# Altium footprint library Microdrive_Drive.PcbLib: 16 footprints
Each footprint in its own frame and in the unit in brackets; x right, y up, seen from the top. Pads: shape width x height; smd on the part's side, far side on the other; paste and mask are expansions set on the pad; w line width, h text height; cw(c..) or ccw(c..) is an arc to the next point about the centre after c.
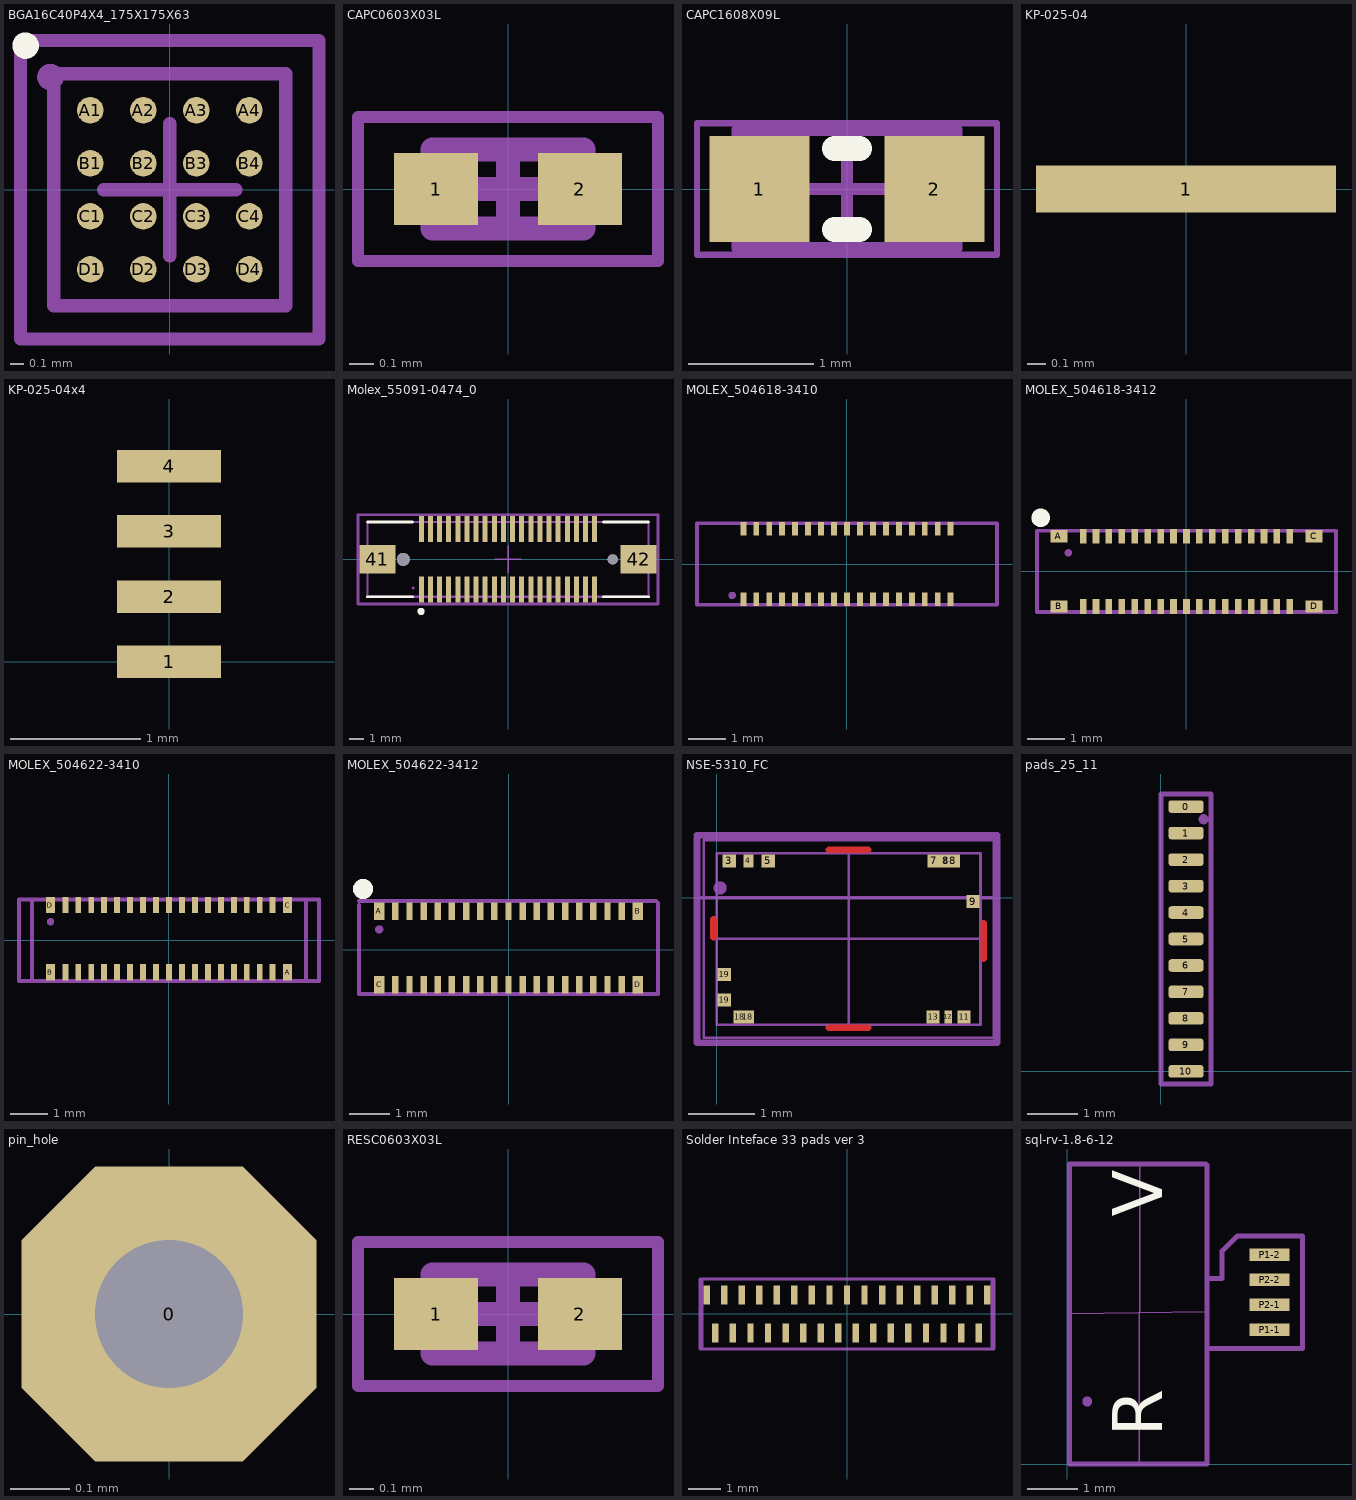
[diagram p0: the footprints below, top view; thin cyan lines are the x and y axes]

## BGA16C40P4X4_175X175X63 [mm]
pads (16):
  round 0.2 smd: A1(-0.6,0.6) A2(-0.2,0.6) A3(0.2,0.6) A4(0.6,0.6) B1(-0.6,0.2) B2(-0.2,0.2) B3(0.2,0.2) B4(0.6,0.2) C1(-0.6,-0.2) C2(-0.2,-0.2) C3(0.2,-0.2) C4(0.6,-0.2) D1(-0.6,-0.6) D2(-0.2,-0.6) D3(0.2,-0.6) D4(0.6,-0.6)
Top Overlay:
  circle w0.1: c-1.087,1.087 r0.05
Mechanical 1:
  lines w0.1: -0.875,-0.875 -0.875,0.875 0.875,0.875 0.875,-0.875 -0.875,-0.875
Mechanical 15:
  lines w0.1: -0.5,0 0.5,0 ; 0,-0.5 0,0.5 ; -1.125,-1.125 1.125,-1.125 1.125,1.125 -1.125,1.125 -1.125,-1.125
Mechanical 22:
  circle w0.1: c-0.9,0.85 r0.05
  lines w0.1: -1.125,-1.125 1.125,-1.125 1.125,1.125 -1.125,1.125 -1.125,-1.125
  text ".Designator" at -1,-0.05 h0.15
3D body: height 0.25, standoff 0, extent -0.875,-0.875 0.875,0.875

## CAPC0603X03L [mm]
pads (2):
  rect 0.35x0.3 smd: 1(-0.3,0) 2(0.3,0)
Mechanical 1:
  lines w0.1: -0.315,-0.165 0.315,-0.165 0.315,0.165 -0.315,0.165 -0.315,-0.165
Mechanical 15:
  lines w0.1: -0.165,0 0.165,0 ; 0,-0.165 0,0.165
Mechanical 22:
  lines w0.05: -0.625,-0.3 0.625,-0.3 0.625,0.3 -0.625,0.3 -0.625,-0.3
  text ".Designator" at -0.5,-0.2 h0.15
3D body: height 0.25, standoff 0, extent -0.675,-0.35 0.675,0.35
3D body: height 0.25, standoff 0, extent -0.314,-0.164 0.314,0.164
3D body: height 0.25, standoff 0, extent -0.365,-0.215 0.365,0.215
3D body: height 0.25, standoff 0, extent -0.166,-0.166 0.166,0.166
3D body: height 0.25, standoff 0, extent -0.624,-0.299 0.624,0.299
3D body: height 0.25, standoff 0, extent -0.675,-0.35 0.675,0.35
3D body: height 0.25, standoff 0, extent -0.577,-0.252 0.577,0.252
3D body: height 0.33, standoff 0, extent -0.315,-0.165 0.315,0.165

## CAPC1608X09L [mm]
pads (2):
  rect 0.8x0.85 smd: 1(-0.7,0) 2(0.7,0)
Top Overlay:
  lines w0.2: -0.1,-0.325 0.1,-0.325 ; -0.1,0.325 0.1,0.325
Mechanical 1:
  lines w0.1: -0.875,-0.475 0.875,-0.475 0.875,0.475 -0.875,0.475 -0.875,-0.475
Mechanical 15:
  lines w0.1: -0.475,0 0.475,0 ; 0,-0.475 0,0.475
Mechanical 22:
  lines w0.05: -1.2,-0.525 1.2,-0.525 1.2,0.525 -1.2,0.525 -1.2,-0.525
  text ".Designator" at -0.8,-0.05 h0.15
3D body: height 0.25, standoff 0, extent -0.2,-0.425 0.2,0.425
3D body: height 0.25, standoff 0, extent -0.874,-0.474 0.874,0.474
3D body: height 0.25, standoff 0, extent -0.925,-0.525 0.925,0.525
3D body: height 0.25, standoff 0, extent -0.476,-0.476 0.476,0.476
3D body: height 0.25, standoff 0, extent -1.199,-0.524 1.199,0.524
3D body: height 0.25, standoff 0, extent -1.25,-0.575 1.25,0.575
3D body: height 0.25, standoff 0, extent -1.202,-0.527 1.202,0.527
3D body: height 0.95, standoff 0, extent -0.875,-0.475 0.875,0.475

## KP-025-04 [mm]
pads (1):
  rect 1.6x0.25 smd: 1(0,0)
3D body: height 0.03, standoff 0, extent -0.902,-0.227 0.902,0.227

## KP-025-04x4 [mm]
pads (4):
  rect 0.8x0.25 smd: 1(0,0) 2(0,0.5) 3(0,1) 4(0,1.5)
3D body: height 0.03, standoff 0, extent -0.5,-0.227 0.5,0.227
3D body: height 0.03, standoff 0, extent -0.5,0.273 0.5,0.727
3D body: height 0.03, standoff 0, extent -0.5,0.773 0.5,1.227
3D body: height 0.03, standoff 0, extent -0.5,1.273 0.5,1.727

## Molex_55091-0474_0 [mm]
pads (44):
  rect 0.35x1.8 smd paste+0 mask+0: 1(-6.032,-2.1) 2(-6.032,2.1) 3(-5.397,-2.1) 4(-5.397,2.1) 5(-4.763,-2.1) 6(-4.763,2.1) 7(-4.127,-2.1) 8(-4.127,2.1) 9(-3.492,-2.1) 10(-3.492,2.1) 11(-2.857,-2.1) 12(-2.857,2.1) 13(-2.222,-2.1) 14(-2.222,2.1) 15(-1.587,-2.1) 16(-1.587,2.1) 17(-0.953,-2.1) 18(-0.953,2.1) 19(-0.318,-2.1) 20(-0.318,2.1) 21(0.318,-2.1) 22(0.318,2.1) 23(0.953,-2.1) 24(0.953,2.1) 25(1.587,-2.1) 26(1.587,2.1) 27(2.222,-2.1) 28(2.222,2.1) 29(2.857,-2.1) 30(2.857,2.1) 31(3.492,-2.1) 32(3.492,2.1) 33(4.127,-2.1) 34(4.127,2.1) 35(4.763,-2.1) 36(4.763,2.1) 37(5.397,-2.1) 38(5.397,2.1) 39(6.032,-2.1) 40(6.032,2.1)
  rect 2.5x2 smd paste+0 mask+0: 41(-9.085,0) 42(9.085,0)
  round 0.9 hole 0.9 unplated paste-1000 mask+0: ""(-7.285,0)
  round 0.7 hole 0.7 unplated paste-1000 mask+0: ""(7.285,0)
Top Overlay:
  circle w0.25: c-6.05,-3.625 r0.125
  lines w0.2: -9.785,-2.6 -6.65,-2.6 ; -9.785,2.6 -6.65,2.6 ; 6.65,-2.6 9.785,-2.6 ; 6.65,2.6 9.785,2.6
Mechanical 10:
  lines w0.2: -10.435,-3.1 -10.435,3.1 10.435,3.1 10.435,-3.1 -10.435,-3.1
  text ".Designator" at 0,0 h1
Mechanical 12:
  lines w0.15: -9.785,-2.6 -9.785,2.6 9.785,2.6 9.785,-2.6 -9.785,-2.6
Mechanical 15:
  lines w0.1: -0.93,0 0.93,0 ; 0,-0.93 0,0.93
Mechanical 22:
  circle w0.1: c-6.6,-2 r0.05
  lines w0.2: -10.435,-3.1 10.435,-3.1 10.435,3.1 -10.435,3.1 -10.435,-3.1
  text ".Designator" at -0.2,-0.1 h0.15
3D body "3dmodel.step": height 5.24, standoff -0.61, extent -9.785,-2.587 9.785,2.613

## MOLEX_504618-3410 [mm]
pads (34):
  rect 0.16x0.36 smd paste+0 mask+0: 1(-2.8,-0.95) 2(-2.8,0.95) 3(-2.45,-0.95) 4(-2.45,0.95) 5(-2.1,-0.95) 6(-2.1,0.95) 7(-1.75,-0.95) 8(-1.75,0.95) 9(-1.4,-0.95) 10(-1.4,0.95) 11(-1.05,-0.95) 12(-1.05,0.95) 13(-0.7,-0.95) 14(-0.7,0.95) 15(-0.35,-0.95) 16(-0.35,0.95) 17(0,-0.95) 18(0,0.95) 19(0.35,-0.95) 20(0.35,0.95) 21(0.7,-0.95) 22(0.7,0.95) 23(1.05,-0.95) 24(1.05,0.95) 25(1.4,-0.95) 26(1.4,0.95) 27(1.75,-0.95) 28(1.75,0.95) 29(2.1,-0.95) 30(2.1,0.95) 31(2.45,-0.95) 32(2.45,0.95) 33(2.8,-0.95) 34(2.8,0.95)
Mechanical 15:
  lines w0.1: -4.05,-1.1 -4.05,1.1 4.05,1.1 4.05,-1.1 -4.05,-1.1
Mechanical 22:
  circle w0.1: c-3.1,-0.85 r0.05
  lines w0.1: -4.05,-1.1 -4.05,1.1 ; -4.05,-1.1 4.05,-1.1 ; -4.05,-1.1 4.05,-1.1 ; -4.05,-1.1 -4.05,1.1 ; -4.05,1.1 4.05,1.1 ; -4.05,1.1 4.05,1.1 ; 4.05,-1.1 4.05,1.1 ; 4.05,-1.1 4.05,1.1
  text ".Designator" at -0.65,-0.1 h0.15
3D body "5046183410.stp": height 0.58, standoff -0.02, extent -4.05,-1 4.05,1

## MOLEX_504618-3412 [mm]
pads (38):
  rect 0.455x0.33 smd paste-1000 mask+0.035: A(-3.455,0.95) B(-3.455,-0.95) C(3.455,0.95) D(3.455,-0.95)
  rect 0.18x0.4 smd paste+0 mask+0.035: B1(-2.8,-0.95) B2(-2.45,-0.95) B3(-2.1,-0.95) B4(-1.75,-0.95) B5(-1.4,-0.95) B6(-1.05,-0.95) B7(-0.7,-0.95) B8(-0.35,-0.95) B9(0,-0.95) B10(0.35,-0.95) B11(0.7,-0.95) B12(1.05,-0.95) B13(1.4,-0.95) B14(1.75,-0.95) B15(2.1,-0.95) B16(2.45,-0.95) B17(2.8,-0.95) T1(-2.8,0.95) T2(-2.45,0.95) T3(-2.1,0.95) T4(-1.75,0.95) T5(-1.4,0.95) T6(-1.05,0.95) T7(-0.7,0.95) T8(-0.35,0.95) T9(0,0.95) T10(0.35,0.95) T11(0.7,0.95) T12(1.05,0.95) T13(1.4,0.95) T14(1.75,0.95) T15(2.1,0.95) T16(2.45,0.95) T17(2.8,0.95)
Top Overlay:
  circle w0.25: c-3.95,1.45 r0.125
Mechanical 15:
  lines w0.1: -4.05,-1.1 4.05,-1.1 4.05,1.1 -4.05,1.1 -4.05,-1.1
Mechanical 22:
  circle w0.1: c-3.2,0.5 r0.05
  lines w0.1: -4.05,-1.1 -4.05,1.1 4.05,1.1 4.05,-1.1 -4.05,-1.1
  text ".Designator" at -0.2,-0.05 h0.15
3D body "5046183410.stp": height 0.58, standoff -0.02, extent -4.05,-1 4.05,1

## MOLEX_504622-3410 [mm]
pads (38):
  rect 0.16x0.435 smd paste+0 mask+0.035: 1(2.8,-0.865) 2(2.8,0.95) 3(2.45,-0.865) 4(2.45,0.95) 5(2.1,-0.865) 6(2.1,0.95) 7(1.75,-0.865) 8(1.75,0.95) 9(1.4,-0.865) 10(1.4,0.95) 11(1.05,-0.865) 12(1.05,0.95) 13(0.7,-0.865) 14(0.7,0.95) 15(0.35,-0.865) 16(0.35,0.95) 17(0,-0.865) 18(0,0.95) 19(-0.35,-0.865) 20(-0.35,0.95) 21(-0.7,-0.865) 22(-0.7,0.95) 23(-1.05,-0.865) 24(-1.05,0.95) 25(-1.4,-0.865) 26(-1.4,0.95) 27(-1.75,-0.865) 28(-1.75,0.95) 29(-2.1,-0.865) 30(-2.1,0.95) 31(-2.45,-0.865) 32(-2.45,0.95) 33(-2.8,-0.865) 34(-2.8,0.95)
  rect 0.25x0.435 smd paste+0 mask+0.035: A(3.2,-0.865) B(-3.2,-0.865) C(3.2,0.95) D(-3.2,0.95)
Mechanical 15:
  lines w0.1: -3.7,-1.1 3.7,-1.1 3.7,1.05 3.65,1.1 -3.7,1.1 -3.7,-1.1
Mechanical 22:
  circle w0.1: c-3.2,0.5 r0.05
  lines w0.1: -4.05,-1.1 -4.05,1.1 4.05,1.1 4.05,-1.1 -4.05,-1.1
  text ".Designator" at -0.2,-0.05 h0.15
3D body "5046223410.stp": height 0.46, standoff -0.02, extent -3.62,-1 3.62,1

## MOLEX_504622-3412 [mm]
pads (38):
  rect 0.25x0.435 smd paste+0 mask+0.035: A(-3.2,0.95) B(3.2,0.95) C(-3.2,-0.865) D(3.2,-0.865)
  rect 0.16x0.435 smd paste+0 mask+0.035: B1(-2.8,-0.865) B2(-2.45,-0.865) B3(-2.1,-0.865) B4(-1.75,-0.865) B5(-1.4,-0.865) B6(-1.05,-0.865) B7(-0.7,-0.865) B8(-0.35,-0.865) B9(0,-0.865) B10(0.35,-0.865) B11(0.7,-0.865) B12(1.05,-0.865) B13(1.4,-0.865) B14(1.75,-0.865) B15(2.1,-0.865) B16(2.45,-0.865) B17(2.8,-0.865) T1(-2.8,0.95) T2(-2.45,0.95) T3(-2.1,0.95) T4(-1.75,0.95) T5(-1.4,0.95) T6(-1.05,0.95) T7(-0.7,0.95) T8(-0.35,0.95) T9(0,0.95) T10(0.35,0.95) T11(0.7,0.95) T12(1.05,0.95) T13(1.4,0.95) T14(1.75,0.95) T15(2.1,0.95) T16(2.45,0.95) T17(2.8,0.95)
Top Overlay:
  circle w0.25: c-3.6,1.5 r0.125
Mechanical 22:
  circle w0.1: c-3.2,0.5 r0.05
  lines w0.1: -3.7,1.1 -3.7,-1.1 3.7,-1.1 3.7,1.15 ; -3.7,1.2 3.65,1.2
  text ".Designator" at -0.2,-0.05 h0.15
3D body "5046223410.stp": height 0.46, standoff -0.02, extent -3.62,-1 3.62,1

## NSE-5310_FC [mm]
pads (16):
  rect 0.2x0.2 smd: 3(0.19,0.56) 5(0.781,0.56) 7(3.295,0.56) 8(3.484,0.56) 8(3.587,0.56) 9(3.888,-0.057) 11(3.75,-1.807) 13(3.28,-1.807) 18(0.351,-1.807) 18(0.468,-1.807) 19(0.112,-1.549) 19(0.112,-1.161)
  rect 0.15x0.2 smd: 4(0.48,0.56)
  rect 0.116x0.116 smd: 8(3.484,0.56) 18(0.401,-1.807)
  rect 0.116x0.2 smd: 12(3.51,-1.807)
Top Layer:
  lines w0.1: -0.05,-0.6 -0.05,-0.323 ; 1.7,-1.973 2.3,-1.973 ; 1.7,0.727 2.3,0.727 ; 4.05,-0.923 4.05,-0.386
Mechanical 1:
  lines w0.04: 0,0 4,0 ; 2,0 2,-0.623 2.535,-0.623 ; -0.2,-2.123 -0.2,0.877 4.2,0.877 4.2,-2.123 -0.2,-2.123 ; 0,-1.923 4,-1.923 4,0.677 0,0.677 0,-1.923 ; 0,-0.623 4,-0.623 0,-0.623 ; 2,-1.923 2,0.677 2,-1.923
Mechanical 15:
  lines w0.051: -0.25,0.001 4.25,0.001
  lines w0.102: -0.3,-2.2 -0.3,-1.413 -0.3,0.113 -0.3,0.9 ; -0.3,0.95 4.25,0.95 ; -0.25,-2.2 4.25,-2.2 4.25,0.9
Mechanical 22:
  circle w0.1: c0.05,0.15 r0.05
  lines w0.051: -0.25,0.001 4.25,0.001
  lines w0.102: -0.3,-2.2 -0.3,-1.413 -0.3,0.113 -0.3,0.9 ; -0.3,0.95 4.25,0.95 ; -0.25,-2.2 4.25,-2.2 4.25,0.9
  text ".Designator" at 1.55,-0.75 h0.15
3D body: height 1.02, standoff 0, extent 0.001,0.001 1.999,0.676
3D body: height 0.75, standoff 0, extent -0.199,-2.123 4.199,0.876

## pads_25_11 [mm]
pads (11):
  rrect50% 0.7x0.25 smd mask+0.05: 0(0.5,5.25) 1(0.5,4.725) 2(0.5,4.2) 3(0.5,3.675) 4(0.5,3.15) 5(0.5,2.625) 6(0.5,2.1) 7(0.5,1.575) 8(0.5,1.05) 9(0.5,0.525) 10(0.5,0)
Mechanical 22:
  circle w0.1: c0.85,5 r0.05
  lines w0.1: 0,-0.25 1,-0.25 1,5.5 0,5.5 0,-0.25
  text ".Designator" at 0.1,2.4 h0.15

## pin_hole [mm]
pads (1):
  oct 0.5x0.5 hole 0.25: 0(0,0)

## RESC0603X03L [mm]
pads (2):
  rect 0.35x0.3 smd: 1(-0.3,0) 2(0.3,0)
Mechanical 1:
  lines w0.1: -0.315,-0.165 -0.315,0.165 0.315,0.165 0.315,-0.165 -0.315,-0.165
Mechanical 15:
  lines w0.1: -0.165,0 0.165,0 ; 0,-0.165 0,0.165
Mechanical 22:
  lines w0.05: -0.625,-0.3 -0.625,0.3 0.625,0.3 0.625,-0.3 -0.625,-0.3
  text ".Designator" at -0.45,-0.2 h0.15
3D body: height 0.25, standoff 0, extent -0.166,-0.166 0.166,0.166

## Solder Inteface 33 pads ver 3 [mm]
pads (33):
  rect 0.2x0.6 smd paste-1 mask+0.05: 1(-4.4,0.6) 2(-4.125,-0.6) 3(-3.85,0.6) 5(-3.3,0.6) 6(-3.025,-0.6) 7(-2.75,0.6) 8(-2.475,-0.6) 9(-2.2,0.6) 10(-1.925,-0.6) 11(-1.65,0.6) 12(-1.375,-0.6) 13(-1.1,0.6) 14(-0.825,-0.6) 15(-0.55,0.6) 16(-0.275,-0.6) 17(0,0.6) 18(0.275,-0.6) 19(0.55,0.6) 20(0.825,-0.6) 21(1.1,0.6) 22(1.375,-0.6) 23(1.65,0.6) 24(1.925,-0.6) 25(2.2,0.6) 26(2.475,-0.6) 27(2.75,0.6) 28(3.025,-0.6) 29(3.3,0.6) 30(3.575,-0.6) 31(3.85,0.6) 32(4.125,-0.6) 33(4.4,0.6)
  rect 0.2x0.6 smd rot 0.2 paste-1 mask+0.05: 4(-3.575,-0.6)
Mechanical 15:
  lines w0.1: -4.55,-1.1 -4.55,1.1 ; 4.55,-1.1 4.55,1.05
Mechanical 22:
  lines w0.1: -4.6,-1.1 4.6,-1.1 4.6,1.1 -4.6,1.1 -4.6,-1.1
  text ".Designator" at -2.1,-0.1 h0.15

## sql-rv-1.8-6-12 [mm]
pads (4):
  rect 0.8x0.25 smd: P1-1(4.05,2.685) P1-2(4.05,4.185) P2-1(4.05,3.185) P2-2(4.05,3.685)
Top Layer:
  region: 0.05,0
  region: 0.05,0
Top Overlay:
  text "V" at 1.9,4.95 h1
  text "R" at 1.9,0.55 h1
Mechanical 15:
  lines w0.025: 0.05,3.01 2.77,3.05 ; 1.435,0.05 1.45,6
  lines w0.1: 2.78,6 0.05,6 0.05,0 2.8,0 2.8,5.98 ; 2.8,2.31 4.7,2.31 4.7,4.56 3.4,4.56 3.1,4.26 3.1,3.75 ; 2.8,3.71 3.05,3.71 3.1,3.71
Mechanical 22:
  circle w0.1: c0.4,1.25 r0.05
  lines w0.1: 0.05,0 2.8,0 ; 0.05,0 0.05,6 ; 0.05,0 2.8,0 ; 0.05,0 0.05,6 ; 0.05,6 2.78,6 0.05,6 ; 2.8,0 2.8,5.98 2.8,0 ; 3.1,4.26 3.1,3.75 3.1,4.26 ; 3.1,4.26 3.4,4.56 ; 3.1,4.26 3.4,4.56 ; 3.4,4.56 4.7,4.56 ; 3.4,4.56 4.7,4.56 ; 4.7,2.31 2.8,2.31 4.7,2.31 ; 4.7,2.31 4.7,4.56 ; 4.7,2.31 4.7,4.56 ; 2.8,3.71 3.05,3.71 2.8,3.71
  text ".Designator" at 0.75,2.96 h0.15
  text "R" at 1.9,0.55 h1
  text "V" at 1.9,4.95 h1
  text "V" at 1.9,4.95 h1
  text "R" at 1.9,0.55 h1
3D body "sql-rv-1.8-6-12_nc.STEP": height 2.77, standoff 0, extent 0.05,0 2.82,6
3D body: height 0.07, standoff -2.7, extent -0.05,0 -0.05,0
3D body: height 0.03, standoff 0, extent 3.55,3.958 4.55,4.412
3D body: height 0.03, standoff 0, extent 3.55,3.458 4.55,3.912
3D body: height 0.03, standoff 0, extent 3.55,2.958 4.55,3.412
3D body: height 0.03, standoff 0, extent 3.55,2.458 4.55,2.912